# EAGLE library part LSF0108 (library Lepton_v5)
8 Channel Bidirectional Multi-Voltage Level Translator for Open-Drain and Push-Pull Applications.
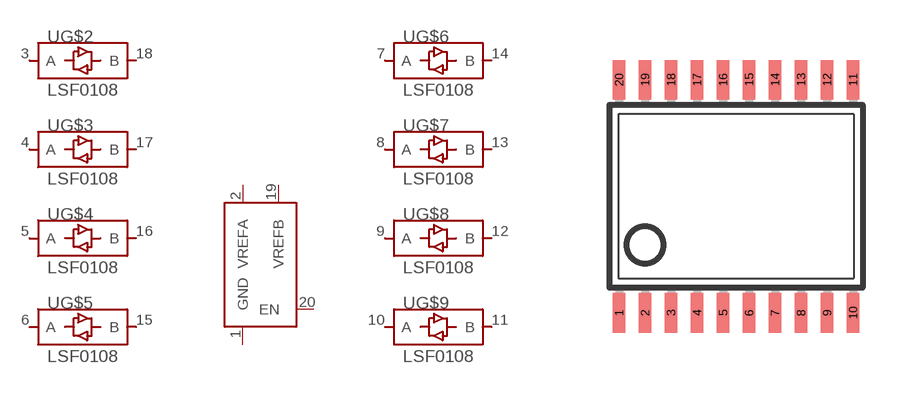
[diagram p2: symbol with the pads of TSSOP20; footprint TSSOP20]

Designator prefix -; gates G$1=REFA_REFB_EN G$2=BIDIR_AB G$3=BIDIR_AB G$4=BIDIR_AB G$5=BIDIR_AB G$6=BIDIR_AB G$7=BIDIR_AB G$8=BIDIR_AB G$9=BIDIR_AB

## LSF0108PWR  [TSSOP20]
1  G$1:GND  pwr
2  G$1:VREFA  pwr
3  G$2:A
4  G$3:A
5  G$4:A
6  G$5:A
7  G$6:A
8  G$7:A
9  G$8:A
10  G$9:A
11  G$9:B
12  G$8:B
13  G$7:B
14  G$6:B
15  G$5:B
16  G$4:B
17  G$3:B
18  G$2:B
19  G$1:VREFB  pwr
20  G$1:EN  in

## Footprint TSSOP20 (pad centres in mm)
Thin Shrink Small Outline Plastic 20
smd 0.305 x 0.991: 1 -2.925,-2.918; 2 -2.275,-2.918; 3 -1.625,-2.918; 4 -0.975,-2.918; 5 -0.325,-2.918; 6 0.325,-2.918; 7 0.975,-2.918; 8 1.625,-2.918; 9 2.275,-2.918; 10 2.925,-2.918; 11 2.925,2.918; 12 2.275,2.918; 13 1.625,2.918; 14 0.975,2.918; 15 0.325,2.918; 16 -0.325,2.918; 17 -0.975,2.918; 18 -1.625,2.918; 19 -2.275,2.918; 20 -2.925,2.918